# Altium integrated library Analog Devices Data Converters Digital-to-Analog Converters.IntLib: 2231 symbols (part 69 of 181)
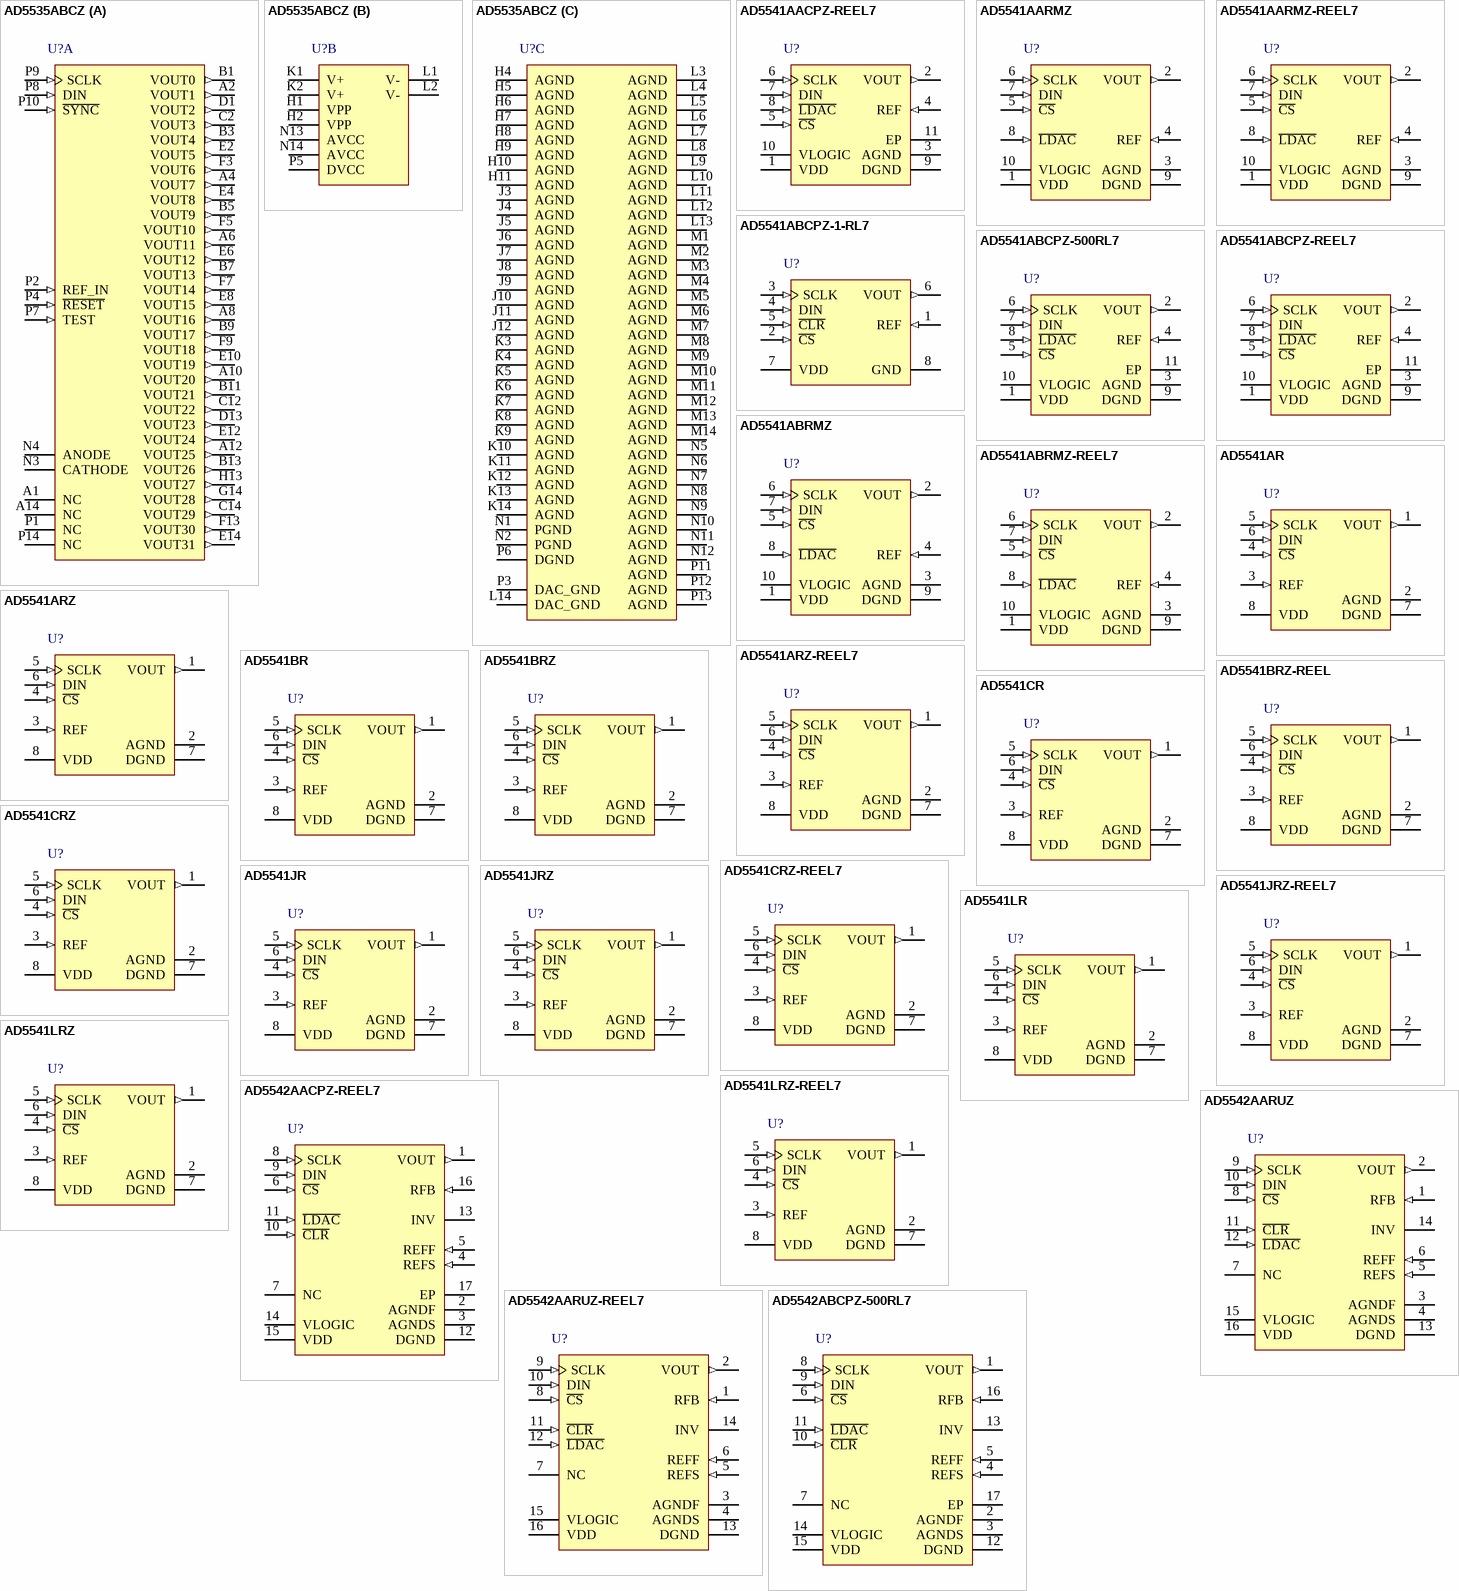
[diagram p182: symbols AD5535ABCZ to AD5542ABCPZ-500RL7]

## AD5541ARZ-REEL7
designator U?
Single 16-Bit Digital-to-Analog Converter with Serial Interface, 2.7 to 5.5 V, -40 to +85 degC, R-8, Pb-Free, Reel; Generic Part Number: AD5541; Manufacturer: Analog Devices; PartNumber: AD5541ARZ-REEL7; # DAC Outputs: 1; Max V+: 5.5V; Op Pwr Diss: 6.05mW; Resolution (Bits): 16; Settling Time: 1µs; Single Supply: Yes; DatasheetVersion: Rev.F; PackageVersion: 060506-A; PackageReference: R-8; PackageDescription: 8-Lead Standard Small Outline Package [SOIC_N] Narrow Body; Supplier 1: Digi-Key; Supplier Part Number 1: AD5541ARZ-REEL7-ND; Supplier 2: Newark; Supplier Part Number 2: 59K4206; Supplier 3: Mouser; Supplier Part Number 3: 584-AD5541ARZ-R7; Packing: Reel; RoHS: Y; Mounting Technology: Surface Mount; Code_JEDEC: MS-012-AA; Code_IPC: SOIC127P600-8; ComponentLink1Description: Manufacturer URL; ComponentLink1URL: http://www.analog.com/en/index.html; ComponentLink2Description: Datasheet; ComponentLink2URL: http://www.analog.com/static/imported-files/data_sheets/AD5541_5542.pdf; ComponentLink3Description: Package Specification; ComponentLink3URL: http://www.analog.com/static/imported-files/packages/PKG_PDF/SOIC_Narrow%20(R)/R_8.pdf; ComponentLink4Description: Product URL; ComponentLink4URL: http://www.analog.com/en/digital-to-analog-converters/da-converters/ad5541/products/product.html; ComponentLink5Description: Reference Design URL; ComponentLink5URL: http://www.analog.com/en/digital-to-analog-converters/da-converters/ad5541/products/product.html#prod_cross_sell
footprint R-8_N (SOIC, 8-Leads, Body 4.9x3.9mm, Pitch 1.27mm, IPC Medium Density)
footprint R-8_L (SOIC, 8-Leads, Body 4.9x3.9mm, Pitch 1.27mm, IPC High Density)
footprint R-8_M (SOIC, 8-Leads, Body 4.9x3.9mm, Pitch 1.27mm, IPC Low Density)
pins: 1 VOUT (out) "Analog Output Voltage from the DAC.", 2 AGND (power) "Ground Reference Point for Analog Circuitry.", 3 REF (in) "Voltage Reference Input for the DAC. Connect to an external 2.5 V reference. Reference can range from 2 V to VDD.", 4 ~{CS} (in) "Logic Input Signal. The chip select signal is used to frame the serial data input.", 5 SCLK (in) "Clock Input. Data is clocked into the input register on the rising edge of SCLK. Duty cycle must be between 40% and 60%.", 6 DIN (in) "Serial Data Input. This device accepts 16-bit words. Data is clocked into the input register on the rising edge of SCLK.", 7 DGND (power) "Digital Ground. Ground reference for digital circuitry.", 8 VDD (power) "Analog Supply Voltage, 5 V +/- 10%."

## AD5541BR
designator U?
Single 16-Bit Digital-to-Analog Converter with Serial Interface, 2.7 to 5.5 V, -40 to +85 degC, R-8, Tube; Generic Part Number: AD5541; Manufacturer: Analog Devices; PartNumber: AD5541BR; # DAC Outputs: 1; Max V+: 5.5V; Op Pwr Diss: 6.05mW; Resolution (Bits): 16; Settling Time: 1µs; Single Supply: Yes; DatasheetVersion: Rev.F; PackageVersion: 060506-A; PackageReference: R-8; PackageDescription: 8-Lead Standard Small Outline Package [SOIC_N] Narrow Body; Supplier 1: Digi-Key; Supplier Part Number 1: AD5541BR-ND; Supplier 2: Mouser; Supplier Part Number 2: 584-AD5541BR; Packing: Tube; RoHS: N; Mounting Technology: Surface Mount; Code_JEDEC: MS-012-AA; Code_IPC: SOIC127P600-8; ComponentLink1Description: Manufacturer URL; ComponentLink1URL: http://www.analog.com/en/index.html; ComponentLink2Description: Datasheet; ComponentLink2URL: http://www.analog.com/static/imported-files/data_sheets/AD5541_5542.pdf; ComponentLink3Description: Package Specification; ComponentLink3URL: http://www.analog.com/static/imported-files/packages/PKG_PDF/SOIC_Narrow%20(R)/R_8.pdf; ComponentLink4Description: Product URL; ComponentLink4URL: http://www.analog.com/en/digital-to-analog-converters/da-converters/ad5541/products/product.html; ComponentLink5Description: Reference Design URL; ComponentLink5URL: http://www.analog.com/en/digital-to-analog-converters/da-converters/ad5541/products/product.html#prod_cross_sell
footprint R-8_N (SOIC, 8-Leads, Body 4.9x3.9mm, Pitch 1.27mm, IPC Medium Density)
footprint R-8_L (SOIC, 8-Leads, Body 4.9x3.9mm, Pitch 1.27mm, IPC High Density)
footprint R-8_M (SOIC, 8-Leads, Body 4.9x3.9mm, Pitch 1.27mm, IPC Low Density)
pins: 1 VOUT (out) "Analog Output Voltage from the DAC.", 2 AGND (power) "Ground Reference Point for Analog Circuitry.", 3 REF (in) "Voltage Reference Input for the DAC. Connect to an external 2.5 V reference. Reference can range from 2 V to VDD.", 4 ~{CS} (in) "Logic Input Signal. The chip select signal is used to frame the serial data input.", 5 SCLK (in) "Clock Input. Data is clocked into the input register on the rising edge of SCLK. Duty cycle must be between 40% and 60%.", 6 DIN (in) "Serial Data Input. This device accepts 16-bit words. Data is clocked into the input register on the rising edge of SCLK.", 7 DGND (power) "Digital Ground. Ground reference for digital circuitry.", 8 VDD (power) "Analog Supply Voltage, 5 V +/- 10%."

## AD5541BRZ
designator U?
Single 16-Bit Digital-to-Analog Converter with Serial Interface, 2.7 to 5.5 V, -40 to +85 degC, R-8, Pb-Free, Tube; Generic Part Number: AD5541; Manufacturer: Analog Devices; PartNumber: AD5541BRZ; # DAC Outputs: 1; Max V+: 5.5V; Op Pwr Diss: 6.05mW; Resolution (Bits): 16; Settling Time: 1µs; Single Supply: Yes; DatasheetVersion: Rev.F; PackageVersion: 060506-A; PackageReference: R-8; PackageDescription: 8-Lead Standard Small Outline Package [SOIC_N] Narrow Body; Supplier 1: Digi-Key; Supplier Part Number 1: AD5541BRZ-ND; Supplier 2: Farnell; Supplier Part Number 2: 2305672; Supplier 3: Newark; Supplier Part Number 3: 59K4207; Supplier 4: Mouser; Supplier Part Number 4: 584-AD5541BRZ; Packing: Tube; RoHS: Y; Mounting Technology: Surface Mount; Code_JEDEC: MS-012-AA; Code_IPC: SOIC127P600-8; ComponentLink1Description: Manufacturer URL; ComponentLink1URL: http://www.analog.com/en/index.html; ComponentLink2Description: Datasheet; ComponentLink2URL: http://www.analog.com/static/imported-files/data_sheets/AD5541_5542.pdf; ComponentLink3Description: Package Specification; ComponentLink3URL: http://www.analog.com/static/imported-files/packages/PKG_PDF/SOIC_Narrow%20(R)/R_8.pdf; ComponentLink4Description: Product URL; ComponentLink4URL: http://www.analog.com/en/digital-to-analog-converters/da-converters/ad5541/products/product.html; ComponentLink5Description: Reference Design URL; ComponentLink5URL: http://www.analog.com/en/digital-to-analog-converters/da-converters/ad5541/products/product.html#prod_cross_sell
footprint R-8_N (SOIC, 8-Leads, Body 4.9x3.9mm, Pitch 1.27mm, IPC Medium Density)
footprint R-8_L (SOIC, 8-Leads, Body 4.9x3.9mm, Pitch 1.27mm, IPC High Density)
footprint R-8_M (SOIC, 8-Leads, Body 4.9x3.9mm, Pitch 1.27mm, IPC Low Density)
pins: 1 VOUT (out) "Analog Output Voltage from the DAC.", 2 AGND (power) "Ground Reference Point for Analog Circuitry.", 3 REF (in) "Voltage Reference Input for the DAC. Connect to an external 2.5 V reference. Reference can range from 2 V to VDD.", 4 ~{CS} (in) "Logic Input Signal. The chip select signal is used to frame the serial data input.", 5 SCLK (in) "Clock Input. Data is clocked into the input register on the rising edge of SCLK. Duty cycle must be between 40% and 60%.", 6 DIN (in) "Serial Data Input. This device accepts 16-bit words. Data is clocked into the input register on the rising edge of SCLK.", 7 DGND (power) "Digital Ground. Ground reference for digital circuitry.", 8 VDD (power) "Analog Supply Voltage, 5 V +/- 10%."

## AD5541BRZ-REEL
designator U?
Single 16-Bit Digital-to-Analog Converter with Serial Interface, 2.7 to 5.5 V, -40 to +85 degC, R-8, Pb-Free, Reel; Generic Part Number: AD5541; Manufacturer: Analog Devices; PartNumber: AD5541BRZ-REEL; # DAC Outputs: 1; Max V+: 5.5V; Op Pwr Diss: 6.05mW; Resolution (Bits): 16; Settling Time: 1µs; Single Supply: Yes; DatasheetVersion: Rev.F; PackageVersion: 060506-A; PackageReference: R-8; PackageDescription: 8-Lead Standard Small Outline Package [SOIC_N] Narrow Body; Supplier 1: Digi-Key; Supplier Part Number 1: AD5541BRZ-REEL-ND; Supplier 2: Newark; Supplier Part Number 2: 91R2577; Supplier 3: Mouser; Supplier Part Number 3: 584-AD5541BRZ-R; Packing: Reel; RoHS: Y; Mounting Technology: Surface Mount; Code_JEDEC: MS-012-AA; Code_IPC: SOIC127P600-8; ComponentLink1Description: Manufacturer URL; ComponentLink1URL: http://www.analog.com/en/index.html; ComponentLink2Description: Datasheet; ComponentLink2URL: http://www.analog.com/static/imported-files/data_sheets/AD5541_5542.pdf; ComponentLink3Description: Package Specification; ComponentLink3URL: http://www.analog.com/static/imported-files/packages/PKG_PDF/SOIC_Narrow%20(R)/R_8.pdf; ComponentLink4Description: Product URL; ComponentLink4URL: http://www.analog.com/en/digital-to-analog-converters/da-converters/ad5541/products/product.html; ComponentLink5Description: Reference Design URL; ComponentLink5URL: http://www.analog.com/en/digital-to-analog-converters/da-converters/ad5541/products/product.html#prod_cross_sell
footprint R-8_N (SOIC, 8-Leads, Body 4.9x3.9mm, Pitch 1.27mm, IPC Medium Density)
footprint R-8_L (SOIC, 8-Leads, Body 4.9x3.9mm, Pitch 1.27mm, IPC High Density)
footprint R-8_M (SOIC, 8-Leads, Body 4.9x3.9mm, Pitch 1.27mm, IPC Low Density)
pins: 1 VOUT (out) "Analog Output Voltage from the DAC.", 2 AGND (power) "Ground Reference Point for Analog Circuitry.", 3 REF (in) "Voltage Reference Input for the DAC. Connect to an external 2.5 V reference. Reference can range from 2 V to VDD.", 4 ~{CS} (in) "Logic Input Signal. The chip select signal is used to frame the serial data input.", 5 SCLK (in) "Clock Input. Data is clocked into the input register on the rising edge of SCLK. Duty cycle must be between 40% and 60%.", 6 DIN (in) "Serial Data Input. This device accepts 16-bit words. Data is clocked into the input register on the rising edge of SCLK.", 7 DGND (power) "Digital Ground. Ground reference for digital circuitry.", 8 VDD (power) "Analog Supply Voltage, 5 V +/- 10%."

## AD5541CR
designator U?
Single 16-Bit Digital-to-Analog Converter with Serial Interface, 2.7 to 5.5 V, -40 to +85 degC, R-8, Tube; Generic Part Number: AD5541; Manufacturer: Analog Devices; PartNumber: AD5541CR; # DAC Outputs: 1; Max V+: 5.5V; Op Pwr Diss: 6.05mW; Resolution (Bits): 16; Settling Time: 1µs; Single Supply: Yes; DatasheetVersion: Rev.F; PackageVersion: 060506-A; PackageReference: R-8; PackageDescription: 8-Lead Standard Small Outline Package [SOIC_N] Narrow Body; Supplier 1: Digi-Key; Supplier Part Number 1: AD5541CR-ND; Supplier 2: Mouser; Supplier Part Number 2: 584-AD5541CR; Packing: Tube; RoHS: N; Mounting Technology: Surface Mount; Code_JEDEC: MS-012-AA; Code_IPC: SOIC127P600-8; ComponentLink1Description: Manufacturer URL; ComponentLink1URL: http://www.analog.com/en/index.html; ComponentLink2Description: Datasheet; ComponentLink2URL: http://www.analog.com/static/imported-files/data_sheets/AD5541_5542.pdf; ComponentLink3Description: Package Specification; ComponentLink3URL: http://www.analog.com/static/imported-files/packages/PKG_PDF/SOIC_Narrow%20(R)/R_8.pdf; ComponentLink4Description: Product URL; ComponentLink4URL: http://www.analog.com/en/digital-to-analog-converters/da-converters/ad5541/products/product.html; ComponentLink5Description: Reference Design URL; ComponentLink5URL: http://www.analog.com/en/digital-to-analog-converters/da-converters/ad5541/products/product.html#prod_cross_sell
footprint R-8_N (SOIC, 8-Leads, Body 4.9x3.9mm, Pitch 1.27mm, IPC Medium Density)
footprint R-8_L (SOIC, 8-Leads, Body 4.9x3.9mm, Pitch 1.27mm, IPC High Density)
footprint R-8_M (SOIC, 8-Leads, Body 4.9x3.9mm, Pitch 1.27mm, IPC Low Density)
pins: 1 VOUT (out) "Analog Output Voltage from the DAC.", 2 AGND (power) "Ground Reference Point for Analog Circuitry.", 3 REF (in) "Voltage Reference Input for the DAC. Connect to an external 2.5 V reference. Reference can range from 2 V to VDD.", 4 ~{CS} (in) "Logic Input Signal. The chip select signal is used to frame the serial data input.", 5 SCLK (in) "Clock Input. Data is clocked into the input register on the rising edge of SCLK. Duty cycle must be between 40% and 60%.", 6 DIN (in) "Serial Data Input. This device accepts 16-bit words. Data is clocked into the input register on the rising edge of SCLK.", 7 DGND (power) "Digital Ground. Ground reference for digital circuitry.", 8 VDD (power) "Analog Supply Voltage, 5 V +/- 10%."

## AD5541CRZ
designator U?
Single 16-Bit Digital-to-Analog Converter with Serial Interface, 2.7 to 5.5 V, -40 to +85 degC, R-8, Pb-Free, Tube; Generic Part Number: AD5541; Manufacturer: Analog Devices; PartNumber: AD5541CRZ; # DAC Outputs: 1; Max V+: 5.5V; Op Pwr Diss: 6.05mW; Resolution (Bits): 16; Settling Time: 1µs; Single Supply: Yes; DatasheetVersion: Rev.F; PackageVersion: 060506-A; PackageReference: R-8; PackageDescription: 8-Lead Standard Small Outline Package [SOIC_N] Narrow Body; Supplier 1: Digi-Key; Supplier Part Number 1: AD5541CRZ-ND; Supplier 2: Newark; Supplier Part Number 2: 59K4208; Supplier 3: Mouser; Supplier Part Number 3: 584-AD5541CRZ; Packing: Tube; RoHS: Y; Mounting Technology: Surface Mount; Code_JEDEC: MS-012-AA; Code_IPC: SOIC127P600-8; ComponentLink1Description: Manufacturer URL; ComponentLink1URL: http://www.analog.com/en/index.html; ComponentLink2Description: Datasheet; ComponentLink2URL: http://www.analog.com/static/imported-files/data_sheets/AD5541_5542.pdf; ComponentLink3Description: Package Specification; ComponentLink3URL: http://www.analog.com/static/imported-files/packages/PKG_PDF/SOIC_Narrow%20(R)/R_8.pdf; ComponentLink4Description: Product URL; ComponentLink4URL: http://www.analog.com/en/digital-to-analog-converters/da-converters/ad5541/products/product.html; ComponentLink5Description: Reference Design URL; ComponentLink5URL: http://www.analog.com/en/digital-to-analog-converters/da-converters/ad5541/products/product.html#prod_cross_sell
footprint R-8_N (SOIC, 8-Leads, Body 4.9x3.9mm, Pitch 1.27mm, IPC Medium Density)
footprint R-8_L (SOIC, 8-Leads, Body 4.9x3.9mm, Pitch 1.27mm, IPC High Density)
footprint R-8_M (SOIC, 8-Leads, Body 4.9x3.9mm, Pitch 1.27mm, IPC Low Density)
pins: 1 VOUT (out) "Analog Output Voltage from the DAC.", 2 AGND (power) "Ground Reference Point for Analog Circuitry.", 3 REF (in) "Voltage Reference Input for the DAC. Connect to an external 2.5 V reference. Reference can range from 2 V to VDD.", 4 ~{CS} (in) "Logic Input Signal. The chip select signal is used to frame the serial data input.", 5 SCLK (in) "Clock Input. Data is clocked into the input register on the rising edge of SCLK. Duty cycle must be between 40% and 60%.", 6 DIN (in) "Serial Data Input. This device accepts 16-bit words. Data is clocked into the input register on the rising edge of SCLK.", 7 DGND (power) "Digital Ground. Ground reference for digital circuitry.", 8 VDD (power) "Analog Supply Voltage, 5 V +/- 10%."

## AD5541CRZ-REEL7
designator U?
Single 16-Bit Digital-to-Analog Converter with Serial Interface, 2.7 to 5.5 V, -40 to +85 degC, R-8, Pb-Free, Reel; Generic Part Number: AD5541; Manufacturer: Analog Devices; PartNumber: AD5541CRZ-REEL7; # DAC Outputs: 1; Max V+: 5.5V; Op Pwr Diss: 6.05mW; Resolution (Bits): 16; Settling Time: 1µs; Single Supply: Yes; DatasheetVersion: Rev.F; PackageVersion: 060506-A; PackageReference: R-8; PackageDescription: 8-Lead Standard Small Outline Package [SOIC_N] Narrow Body; Supplier 1: Digi-Key; Supplier Part Number 1: AD5541CRZ-REEL7-ND; Supplier 2: Mouser; Supplier Part Number 2: 584-AD5541CRZ-R7; Packing: Reel; RoHS: Y; Mounting Technology: Surface Mount; Code_JEDEC: MS-012-AA; Code_IPC: SOIC127P600-8; ComponentLink1Description: Manufacturer URL; ComponentLink1URL: http://www.analog.com/en/index.html; ComponentLink2Description: Datasheet; ComponentLink2URL: http://www.analog.com/static/imported-files/data_sheets/AD5541_5542.pdf; ComponentLink3Description: Package Specification; ComponentLink3URL: http://www.analog.com/static/imported-files/packages/PKG_PDF/SOIC_Narrow%20(R)/R_8.pdf; ComponentLink4Description: Product URL; ComponentLink4URL: http://www.analog.com/en/digital-to-analog-converters/da-converters/ad5541/products/product.html; ComponentLink5Description: Reference Design URL; ComponentLink5URL: http://www.analog.com/en/digital-to-analog-converters/da-converters/ad5541/products/product.html#prod_cross_sell
footprint R-8_N (SOIC, 8-Leads, Body 4.9x3.9mm, Pitch 1.27mm, IPC Medium Density)
footprint R-8_L (SOIC, 8-Leads, Body 4.9x3.9mm, Pitch 1.27mm, IPC High Density)
footprint R-8_M (SOIC, 8-Leads, Body 4.9x3.9mm, Pitch 1.27mm, IPC Low Density)
pins: 1 VOUT (out) "Analog Output Voltage from the DAC.", 2 AGND (power) "Ground Reference Point for Analog Circuitry.", 3 REF (in) "Voltage Reference Input for the DAC. Connect to an external 2.5 V reference. Reference can range from 2 V to VDD.", 4 ~{CS} (in) "Logic Input Signal. The chip select signal is used to frame the serial data input.", 5 SCLK (in) "Clock Input. Data is clocked into the input register on the rising edge of SCLK. Duty cycle must be between 40% and 60%.", 6 DIN (in) "Serial Data Input. This device accepts 16-bit words. Data is clocked into the input register on the rising edge of SCLK.", 7 DGND (power) "Digital Ground. Ground reference for digital circuitry.", 8 VDD (power) "Analog Supply Voltage, 5 V +/- 10%."

## AD5541JR
designator U?
Single 16-Bit Digital-to-Analog Converter with Serial Interface, 2.7 to 5.5 V, 0 to +70 degC, R-8, Tube; Generic Part Number: AD5541; Manufacturer: Analog Devices; PartNumber: AD5541JR; # DAC Outputs: 1; Max V+: 5.5V; Op Pwr Diss: 6.05mW; Resolution (Bits): 16; Settling Time: 1µs; Single Supply: Yes; DatasheetVersion: Rev.F; PackageVersion: 060506-A; PackageReference: R-8; PackageDescription: 8-Lead Standard Small Outline Package [SOIC_N] Narrow Body; Supplier 1: Digi-Key; Supplier Part Number 1: AD5541JR-ND; Supplier 2: Mouser; Supplier Part Number 2: 584-AD5541JR; Packing: Tube; RoHS: N; Mounting Technology: Surface Mount; Code_JEDEC: MS-012-AA; Code_IPC: SOIC127P600-8; ComponentLink1Description: Manufacturer URL; ComponentLink1URL: http://www.analog.com/en/index.html; ComponentLink2Description: Datasheet; ComponentLink2URL: http://www.analog.com/static/imported-files/data_sheets/AD5541_5542.pdf; ComponentLink3Description: Package Specification; ComponentLink3URL: http://www.analog.com/static/imported-files/packages/PKG_PDF/SOIC_Narrow%20(R)/R_8.pdf; ComponentLink4Description: Product URL; ComponentLink4URL: http://www.analog.com/en/digital-to-analog-converters/da-converters/ad5541/products/product.html; ComponentLink5Description: Reference Design URL; ComponentLink5URL: http://www.analog.com/en/digital-to-analog-converters/da-converters/ad5541/products/product.html#prod_cross_sell
footprint R-8_N (SOIC, 8-Leads, Body 4.9x3.9mm, Pitch 1.27mm, IPC Medium Density)
footprint R-8_L (SOIC, 8-Leads, Body 4.9x3.9mm, Pitch 1.27mm, IPC High Density)
footprint R-8_M (SOIC, 8-Leads, Body 4.9x3.9mm, Pitch 1.27mm, IPC Low Density)
pins: 1 VOUT (out) "Analog Output Voltage from the DAC.", 2 AGND (power) "Ground Reference Point for Analog Circuitry.", 3 REF (in) "Voltage Reference Input for the DAC. Connect to an external 2.5 V reference. Reference can range from 2 V to VDD.", 4 ~{CS} (in) "Logic Input Signal. The chip select signal is used to frame the serial data input.", 5 SCLK (in) "Clock Input. Data is clocked into the input register on the rising edge of SCLK. Duty cycle must be between 40% and 60%.", 6 DIN (in) "Serial Data Input. This device accepts 16-bit words. Data is clocked into the input register on the rising edge of SCLK.", 7 DGND (power) "Digital Ground. Ground reference for digital circuitry.", 8 VDD (power) "Analog Supply Voltage, 5 V +/- 10%."

## AD5541JRZ
designator U?
Single 16-Bit Digital-to-Analog Converter with Serial Interface, 2.7 to 5.5 V, 0 to +70 degC, R-8, Pb-Free, Tube; Generic Part Number: AD5541; Manufacturer: Analog Devices; PartNumber: AD5541JRZ; # DAC Outputs: 1; Max V+: 5.5V; Op Pwr Diss: 6.05mW; Resolution (Bits): 16; Settling Time: 1µs; Single Supply: Yes; DatasheetVersion: Rev.F; PackageVersion: 060506-A; PackageReference: R-8; PackageDescription: 8-Lead Standard Small Outline Package [SOIC_N] Narrow Body; Supplier 1: Digi-Key; Supplier Part Number 1: AD5541JRZ-ND; Supplier 2: Newark; Supplier Part Number 2: 59K4209; Supplier 3: Mouser; Supplier Part Number 3: 584-AD5541JRZ; Packing: Tube; RoHS: Y; Mounting Technology: Surface Mount; Code_JEDEC: MS-012-AA; Code_IPC: SOIC127P600-8; ComponentLink1Description: Manufacturer URL; ComponentLink1URL: http://www.analog.com/en/index.html; ComponentLink2Description: Datasheet; ComponentLink2URL: http://www.analog.com/static/imported-files/data_sheets/AD5541_5542.pdf; ComponentLink3Description: Package Specification; ComponentLink3URL: http://www.analog.com/static/imported-files/packages/PKG_PDF/SOIC_Narrow%20(R)/R_8.pdf; ComponentLink4Description: Product URL; ComponentLink4URL: http://www.analog.com/en/digital-to-analog-converters/da-converters/ad5541/products/product.html; ComponentLink5Description: Reference Design URL; ComponentLink5URL: http://www.analog.com/en/digital-to-analog-converters/da-converters/ad5541/products/product.html#prod_cross_sell
footprint R-8_N (SOIC, 8-Leads, Body 4.9x3.9mm, Pitch 1.27mm, IPC Medium Density)
footprint R-8_L (SOIC, 8-Leads, Body 4.9x3.9mm, Pitch 1.27mm, IPC High Density)
footprint R-8_M (SOIC, 8-Leads, Body 4.9x3.9mm, Pitch 1.27mm, IPC Low Density)
pins: 1 VOUT (out) "Analog Output Voltage from the DAC.", 2 AGND (power) "Ground Reference Point for Analog Circuitry.", 3 REF (in) "Voltage Reference Input for the DAC. Connect to an external 2.5 V reference. Reference can range from 2 V to VDD.", 4 ~{CS} (in) "Logic Input Signal. The chip select signal is used to frame the serial data input.", 5 SCLK (in) "Clock Input. Data is clocked into the input register on the rising edge of SCLK. Duty cycle must be between 40% and 60%.", 6 DIN (in) "Serial Data Input. This device accepts 16-bit words. Data is clocked into the input register on the rising edge of SCLK.", 7 DGND (power) "Digital Ground. Ground reference for digital circuitry.", 8 VDD (power) "Analog Supply Voltage, 5 V +/- 10%."

## AD5541JRZ-REEL7
designator U?
Single 16-Bit Digital-to-Analog Converter with Serial Interface, 2.7 to 5.5 V, 0 to +70 degC, R-8, Pb-Free, Reel; Generic Part Number: AD5541; Manufacturer: Analog Devices; PartNumber: AD5541JRZ-REEL7; # DAC Outputs: 1; Max V+: 5.5V; Op Pwr Diss: 6.05mW; Resolution (Bits): 16; Settling Time: 1µs; Single Supply: Yes; DatasheetVersion: Rev.F; PackageVersion: 060506-A; PackageReference: R-8; PackageDescription: 8-Lead Standard Small Outline Package [SOIC_N] Narrow Body; Supplier 1: Digi-Key; Supplier Part Number 1: AD5541JRZ-REEL7-ND; Supplier 2: Mouser; Supplier Part Number 2: 584-AD5541JRZ-R7; Packing: Reel; RoHS: Y; Mounting Technology: Surface Mount; Code_JEDEC: MS-012-AA; Code_IPC: SOIC127P600-8; ComponentLink1Description: Manufacturer URL; ComponentLink1URL: http://www.analog.com/en/index.html; ComponentLink2Description: Datasheet; ComponentLink2URL: http://www.analog.com/static/imported-files/data_sheets/AD5541_5542.pdf; ComponentLink3Description: Package Specification; ComponentLink3URL: http://www.analog.com/static/imported-files/packages/PKG_PDF/SOIC_Narrow%20(R)/R_8.pdf; ComponentLink4Description: Product URL; ComponentLink4URL: http://www.analog.com/en/digital-to-analog-converters/da-converters/ad5541/products/product.html; ComponentLink5Description: Reference Design URL; ComponentLink5URL: http://www.analog.com/en/digital-to-analog-converters/da-converters/ad5541/products/product.html#prod_cross_sell
footprint R-8_N (SOIC, 8-Leads, Body 4.9x3.9mm, Pitch 1.27mm, IPC Medium Density)
footprint R-8_L (SOIC, 8-Leads, Body 4.9x3.9mm, Pitch 1.27mm, IPC High Density)
footprint R-8_M (SOIC, 8-Leads, Body 4.9x3.9mm, Pitch 1.27mm, IPC Low Density)
pins: 1 VOUT (out) "Analog Output Voltage from the DAC.", 2 AGND (power) "Ground Reference Point for Analog Circuitry.", 3 REF (in) "Voltage Reference Input for the DAC. Connect to an external 2.5 V reference. Reference can range from 2 V to VDD.", 4 ~{CS} (in) "Logic Input Signal. The chip select signal is used to frame the serial data input.", 5 SCLK (in) "Clock Input. Data is clocked into the input register on the rising edge of SCLK. Duty cycle must be between 40% and 60%.", 6 DIN (in) "Serial Data Input. This device accepts 16-bit words. Data is clocked into the input register on the rising edge of SCLK.", 7 DGND (power) "Digital Ground. Ground reference for digital circuitry.", 8 VDD (power) "Analog Supply Voltage, 5 V +/- 10%."

## AD5541LR
designator U?
Single 16-Bit Digital-to-Analog Converter with Serial Interface, 2.7 to 5.5 V, 0 to +70 degC, R-8, Tube; Generic Part Number: AD5541; Manufacturer: Analog Devices; PartNumber: AD5541LR; # DAC Outputs: 1; Max V+: 5.5V; Op Pwr Diss: 6.05mW; Resolution (Bits): 16; Settling Time: 1µs; Single Supply: Yes; DatasheetVersion: Rev.F; PackageVersion: 060506-A; PackageReference: R-8; PackageDescription: 8-Lead Standard Small Outline Package [SOIC_N] Narrow Body; Supplier 1: Digi-Key; Supplier Part Number 1: AD5541LR-ND; Supplier 2: Mouser; Supplier Part Number 2: 584-AD5541LR; Packing: Tube; RoHS: N; Mounting Technology: Surface Mount; Code_JEDEC: MS-012-AA; Code_IPC: SOIC127P600-8; ComponentLink1Description: Manufacturer URL; ComponentLink1URL: http://www.analog.com/en/index.html; ComponentLink2Description: Datasheet; ComponentLink2URL: http://www.analog.com/static/imported-files/data_sheets/AD5541_5542.pdf; ComponentLink3Description: Package Specification; ComponentLink3URL: http://www.analog.com/static/imported-files/packages/PKG_PDF/SOIC_Narrow%20(R)/R_8.pdf; ComponentLink4Description: Product URL; ComponentLink4URL: http://www.analog.com/en/digital-to-analog-converters/da-converters/ad5541/products/product.html; ComponentLink5Description: Reference Design URL; ComponentLink5URL: http://www.analog.com/en/digital-to-analog-converters/da-converters/ad5541/products/product.html#prod_cross_sell
footprint R-8_N (SOIC, 8-Leads, Body 4.9x3.9mm, Pitch 1.27mm, IPC Medium Density)
footprint R-8_L (SOIC, 8-Leads, Body 4.9x3.9mm, Pitch 1.27mm, IPC High Density)
footprint R-8_M (SOIC, 8-Leads, Body 4.9x3.9mm, Pitch 1.27mm, IPC Low Density)
pins: 1 VOUT (out) "Analog Output Voltage from the DAC.", 2 AGND (power) "Ground Reference Point for Analog Circuitry.", 3 REF (in) "Voltage Reference Input for the DAC. Connect to an external 2.5 V reference. Reference can range from 2 V to VDD.", 4 ~{CS} (in) "Logic Input Signal. The chip select signal is used to frame the serial data input.", 5 SCLK (in) "Clock Input. Data is clocked into the input register on the rising edge of SCLK. Duty cycle must be between 40% and 60%.", 6 DIN (in) "Serial Data Input. This device accepts 16-bit words. Data is clocked into the input register on the rising edge of SCLK.", 7 DGND (power) "Digital Ground. Ground reference for digital circuitry.", 8 VDD (power) "Analog Supply Voltage, 5 V +/- 10%."

## AD5541LRZ
designator U?
Single 16-Bit Digital-to-Analog Converter with Serial Interface, 2.7 to 5.5 V, 0 to +70 degC, R-8, Pb-Free, Tube; Generic Part Number: AD5541; Manufacturer: Analog Devices; PartNumber: AD5541LRZ; # DAC Outputs: 1; Max V+: 5.5V; Op Pwr Diss: 6.05mW; Resolution (Bits): 16; Settling Time: 1µs; Single Supply: Yes; DatasheetVersion: Rev.F; PackageVersion: 060506-A; PackageReference: R-8; PackageDescription: 8-Lead Standard Small Outline Package [SOIC_N] Narrow Body; Supplier 1: Digi-Key; Supplier Part Number 1: AD5541LRZ-ND; Supplier 2: Newark; Supplier Part Number 2: 59K4211; Supplier 3: Mouser; Supplier Part Number 3: 584-AD5541LRZ; Packing: Tube; RoHS: Y; Mounting Technology: Surface Mount; Code_JEDEC: MS-012-AA; Code_IPC: SOIC127P600-8; ComponentLink1Description: Manufacturer URL; ComponentLink1URL: http://www.analog.com/en/index.html; ComponentLink2Description: Datasheet; ComponentLink2URL: http://www.analog.com/static/imported-files/data_sheets/AD5541_5542.pdf; ComponentLink3Description: Package Specification; ComponentLink3URL: http://www.analog.com/static/imported-files/packages/PKG_PDF/SOIC_Narrow%20(R)/R_8.pdf; ComponentLink4Description: Product URL; ComponentLink4URL: http://www.analog.com/en/digital-to-analog-converters/da-converters/ad5541/products/product.html; ComponentLink5Description: Reference Design URL; ComponentLink5URL: http://www.analog.com/en/digital-to-analog-converters/da-converters/ad5541/products/product.html#prod_cross_sell
footprint R-8_N (SOIC, 8-Leads, Body 4.9x3.9mm, Pitch 1.27mm, IPC Medium Density)
footprint R-8_L (SOIC, 8-Leads, Body 4.9x3.9mm, Pitch 1.27mm, IPC High Density)
footprint R-8_M (SOIC, 8-Leads, Body 4.9x3.9mm, Pitch 1.27mm, IPC Low Density)
pins: 1 VOUT (out) "Analog Output Voltage from the DAC.", 2 AGND (power) "Ground Reference Point for Analog Circuitry.", 3 REF (in) "Voltage Reference Input for the DAC. Connect to an external 2.5 V reference. Reference can range from 2 V to VDD.", 4 ~{CS} (in) "Logic Input Signal. The chip select signal is used to frame the serial data input.", 5 SCLK (in) "Clock Input. Data is clocked into the input register on the rising edge of SCLK. Duty cycle must be between 40% and 60%.", 6 DIN (in) "Serial Data Input. This device accepts 16-bit words. Data is clocked into the input register on the rising edge of SCLK.", 7 DGND (power) "Digital Ground. Ground reference for digital circuitry.", 8 VDD (power) "Analog Supply Voltage, 5 V +/- 10%."

## AD5541LRZ-REEL7
designator U?
Single 16-Bit Digital-to-Analog Converter with Serial Interface, 2.7 to 5.5 V, 0 to +70 degC, R-8, Pb-Free, Reel; Generic Part Number: AD5541; Manufacturer: Analog Devices; PartNumber: AD5541LRZ-REEL7; # DAC Outputs: 1; Max V+: 5.5V; Op Pwr Diss: 6.05mW; Resolution (Bits): 16; Settling Time: 1µs; Single Supply: Yes; DatasheetVersion: Rev.F; PackageVersion: 060506-A; PackageReference: R-8; PackageDescription: 8-Lead Standard Small Outline Package [SOIC_N] Narrow Body; Supplier 1: Digi-Key; Supplier Part Number 1: AD5541LRZ-REEL7-ND; Supplier 2: Mouser; Supplier Part Number 2: 584-AD5541LRZ-R7; Packing: Reel; RoHS: Y; Mounting Technology: Surface Mount; Code_JEDEC: MS-012-AA; Code_IPC: SOIC127P600-8; ComponentLink1Description: Manufacturer URL; ComponentLink1URL: http://www.analog.com/en/index.html; ComponentLink2Description: Datasheet; ComponentLink2URL: http://www.analog.com/static/imported-files/data_sheets/AD5541_5542.pdf; ComponentLink3Description: Package Specification; ComponentLink3URL: http://www.analog.com/static/imported-files/packages/PKG_PDF/SOIC_Narrow%20(R)/R_8.pdf; ComponentLink4Description: Product URL; ComponentLink4URL: http://www.analog.com/en/digital-to-analog-converters/da-converters/ad5541/products/product.html; ComponentLink5Description: Reference Design URL; ComponentLink5URL: http://www.analog.com/en/digital-to-analog-converters/da-converters/ad5541/products/product.html#prod_cross_sell
footprint R-8_N (SOIC, 8-Leads, Body 4.9x3.9mm, Pitch 1.27mm, IPC Medium Density)
footprint R-8_L (SOIC, 8-Leads, Body 4.9x3.9mm, Pitch 1.27mm, IPC High Density)
footprint R-8_M (SOIC, 8-Leads, Body 4.9x3.9mm, Pitch 1.27mm, IPC Low Density)
pins: 1 VOUT (out) "Analog Output Voltage from the DAC.", 2 AGND (power) "Ground Reference Point for Analog Circuitry.", 3 REF (in) "Voltage Reference Input for the DAC. Connect to an external 2.5 V reference. Reference can range from 2 V to VDD.", 4 ~{CS} (in) "Logic Input Signal. The chip select signal is used to frame the serial data input.", 5 SCLK (in) "Clock Input. Data is clocked into the input register on the rising edge of SCLK. Duty cycle must be between 40% and 60%.", 6 DIN (in) "Serial Data Input. This device accepts 16-bit words. Data is clocked into the input register on the rising edge of SCLK.", 7 DGND (power) "Digital Ground. Ground reference for digital circuitry.", 8 VDD (power) "Analog Supply Voltage, 5 V +/- 10%."

## AD5542AACPZ-REEL7
designator U?
Single 16-Bit Digital-to-Analog Converter with Serial Interface, 2.7 to 5.5 V, -40 to +85 degC, CP-16-22, Pb-Free, Reel; Generic Part Number: AD5542A; Manufacturer: Analog Devices; PartNumber: AD5542AACPZ-REEL7; # DAC Outputs: 1; Max V+: 5.5V; Op Pwr Diss: 1.5mW; Resolution (Bits): 16; Settling Time: 1µs; Single Supply: Yes; DatasheetVersion: Rev.A; PackageVersion: 111808-A; PackageReference: CP-16-22; PackageDescription: 16-Lead Lead Frame Chip Scale Package [LFCSP_WQ] 3 x 3 mm Body, Very Very Thin Quad; Supplier 1: Digi-Key; Supplier Part Number 1: AD5542AACPZ-REEL7TR-ND; Supplier 2: Digi-Key; Supplier Part Number 2: AD5542AACPZ-REEL7CT-ND; Supplier 3: Digi-Key; Supplier Part Number 3: AD5542AACPZ-REEL7DKR-ND; Supplier 4: Mouser; Supplier Part Number 4: 584-AD5542AACPZ-R7; Packing: Reel; RoHS: Y; Mounting Technology: Surface Mount; Code_JEDEC: MO-220-WEED; ComponentLink1Description: Manufacturer URL; ComponentLink1URL: http://www.analog.com/en/index.html; ComponentLink2Description: Datasheet; ComponentLink2URL: http://www.analog.com/static/imported-files/data_sheets/AD5512A_5542A.pdf; ComponentLink3Description: Package Specification; ComponentLink3URL: http://www.analog.com/static/imported-files/packages/PKG_PDF/LFCSP(CP)/CP-16/CP_16_22.pdf; ComponentLink4Description: Product URL; ComponentLink4URL: http://www.analog.com/en/digital-to-analog-converters/da-converters/ad5542a/products/product.html
footprint CP-16-22_N (QFN, 16-Leads, Body 3x3mm, Pitch 0.5mm, Thermal Pad 1.75x1.75mm, IPC Medium Density)
footprint CP-16-22_L (QFN, 16-Leads, Body 3x3mm, Pitch 0.5mm, Thermal Pad 1.75x1.75mm, IPC High Density)
footprint CP-16-22_M (QFN, 16-Leads, Body 3x3mm, Pitch 0.5mm, Thermal Pad 1.75x1.75mm, IPC Low Density)
pins: 1 VOUT (out) "Analog Output Voltage from the DAC.", 2 AGNDF (power) "Ground Reference Point for Analog Circuitry (Force).", 3 AGNDS (power) "Ground Reference Point for Analog Circuitry (Sense).", 4 REFS (in) "Voltage Reference Input (Sense) for the DAC. Connect to an external 2.5 V reference. Reference can range from 2 V to VDD.", 5 REFF (in) "Voltage Reference Input (Force) for the DAC. Connect to an external 2.5 V reference. Reference can range from 2 V to VDD.", 6 ~{CS} (in) "Logic Input Signal. The chip select signal is used to frame the serial data input.", 7 NC "No Connect.", 8 SCLK (in) "Clock Input. Data is clocked into the input register on the rising edge of SCLK. Duty cycle must be between 40% and 60%.", 9 DIN (in) "Serial Data Input. This device accepts 16-bit words. Data is clocked into the input register on the rising edge of SCLK.", 10 ~{CLR} (in) "Asynchronous Clear Input. The C\L\R\ input is falling edge sensitive. When C\L\R\ is low, all L\D\A\C\ pulses are ignored. When C\L\R\ is activated, the DAC register is cleared to the model selectable midscale.", 11 ~{LDAC} (in) "L\D\A\C\ Input. When this input is taken low, the DAC register is simultaneously updated with the contents of the input register.", 12 DGND (power) "Digital Ground. Ground reference for digital circuitry.", 13 INV "Connection to the Internal Scaling Resistors of the DAC. Connect the INV pin to the external op amps inverting input in bipolar mode.", 14 VLOGIC (power) "Logic Power Supply.", 15 VDD (power) "Analog Supply Voltage, 5 V +/- 10%.", 16 RFB (in) "Feedback Resistor Pin. In bipolar mode, connect this pin to the external op amp output.", 17 EP (power) "The exposed pad should be tied to the point of lowest potential, in this case, GND."

## AD5542AARUZ
designator U?
Single 16-Bit Digital-to-Analog Converter with Serial Interface, 2.7 to 5.5 V, -40 to +85 degC, RU-16, Pb-Free, Tube; Generic Part Number: AD5542A; Manufacturer: Analog Devices; PartNumber: AD5542AARUZ; # DAC Outputs: 1; Max V+: 5.5V; Op Pwr Diss: 1.5mW; Resolution (Bits): 16; Settling Time: 1µs; Single Supply: Yes; DatasheetVersion: Rev.A; PackageVersion: Nov-2002; PackageReference: RU-16; PackageDescription: 16-Lead Thin Shrink Small Outline Package [TSSOP]; Supplier 1: Digi-Key; Supplier Part Number 1: AD5542AARUZ-ND; Supplier 2: Newark; Supplier Part Number 2: 18T2123; Supplier 3: Mouser; Supplier Part Number 3: 584-AD5542AARUZ; Packing: Tube; RoHS: Y; Mounting Technology: Surface Mount; Code_JEDEC: MO-153-AB; ComponentLink1Description: Manufacturer URL; ComponentLink1URL: http://www.analog.com/en/index.html; ComponentLink2Description: Datasheet; ComponentLink2URL: http://www.analog.com/static/imported-files/data_sheets/AD5512A_5542A.pdf; ComponentLink3Description: Package Specification; ComponentLink3URL: http://www.analog.com/static/imported-files/packages/36244347913743854010197452789RU16.pdf; ComponentLink4Description: Product URL; ComponentLink4URL: http://www.analog.com/en/digital-to-analog-converters/da-converters/ad5542a/products/product.html
footprint RU-16_N (TSOP, 16-Leads, Body 5x4.4mm, Pitch 0.65mm, IPC Medium Density)
footprint RU-16_L (TSOP, 16-Leads, Body 5x4.4mm, Pitch 0.65mm, IPC High Density)
footprint RU-16_M (TSOP, 16-Leads, Body 5x4.4mm, Pitch 0.65mm, IPC Low Density)
pins: 1 RFB (in) "Feedback Resistor Pin. In bipolar mode, connect this pin to the external op amp output.", 2 VOUT (out) "Analog Output Voltage from the DAC.", 3 AGNDF (power) "Ground Reference Point for Analog Circuitry (Force).", 4 AGNDS (power) "Ground Reference Point for Analog Circuitry (Sense).", 5 REFS (in) "Voltage Reference Input (Sense) for the DAC. Connect to an external 2.5 V reference. Reference can range from 2 V to VDD.", 6 REFF (in) "Voltage Reference Input (Force) for the DAC. Connect to an external 2.5 V reference. Reference can range from 2 V to VDD.", 7 NC "No Connect.", 8 ~{CS} (in) "Logic Input Signal. The chip select signal is used to frame the serial data input.", 9 SCLK (in) "Clock Input. Data is clocked into the input register on the rising edge of SCLK. Duty cycle must be between 40% and 60%.", 10 DIN (in) "Serial Data Input. This device accepts 16-bit words. Data is clocked into the input register on the rising edge of SCLK.", 11 ~{CLR} (in) "Asynchronous Clear Input. The C\L\R\ input is falling edge sensitive. When C\L\R\ is low, all L\D\A\C\ pulses are ignored. When C\L\R\ is activated, the DAC register is cleared to the model selectable midscale.", 12 ~{LDAC} (in) "L\D\A\C\ Input. When this input is taken low, the DAC register is simultaneously updated with the contents of the input register.", 13 DGND (power) "Digital Ground. Ground reference for digital circuitry.", 14 INV "Connection to the Internal Scaling Resistors of the DAC. Connect the INV pin to the external op amps inverting input in bipolar mode.", 15 VLOGIC (power) "Logic Power Supply.", 16 VDD (power) "Analog Supply Voltage, 5 V +/- 10%."

## AD5542AARUZ-REEL7
designator U?
Single 16-Bit Digital-to-Analog Converter with Serial Interface, 2.7 to 5.5 V, -40 to +85 degC, RU-16, Pb-Free, Reel; Generic Part Number: AD5542A; Manufacturer: Analog Devices; PartNumber: AD5542AARUZ-REEL7; # DAC Outputs: 1; Max V+: 5.5V; Op Pwr Diss: 1.5mW; Resolution (Bits): 16; Settling Time: 1µs; Single Supply: Yes; DatasheetVersion: Rev.A; PackageVersion: Nov-2002; PackageReference: RU-16; PackageDescription: 16-Lead Thin Shrink Small Outline Package [TSSOP]; Supplier 1: Digi-Key; Supplier Part Number 1: AD5542AARUZ-REEL7TR-ND; Supplier 2: Digi-Key; Supplier Part Number 2: AD5542AARUZ-REEL7CT-ND; Supplier 3: Digi-Key; Supplier Part Number 3: AD5542AARUZ-REEL7DKR-ND; Supplier 4: Mouser; Supplier Part Number 4: 584-AD5542AARUZ-R7; Packing: Reel; RoHS: Y; Mounting Technology: Surface Mount; Code_JEDEC: MO-153-AB; ComponentLink1Description: Manufacturer URL; ComponentLink1URL: http://www.analog.com/en/index.html; ComponentLink2Description: Datasheet; ComponentLink2URL: http://www.analog.com/static/imported-files/data_sheets/AD5512A_5542A.pdf; ComponentLink3Description: Package Specification; ComponentLink3URL: http://www.analog.com/static/imported-files/packages/36244347913743854010197452789RU16.pdf; ComponentLink4Description: Product URL; ComponentLink4URL: http://www.analog.com/en/digital-to-analog-converters/da-converters/ad5542a/products/product.html
footprint RU-16_N (TSOP, 16-Leads, Body 5x4.4mm, Pitch 0.65mm, IPC Medium Density)
footprint RU-16_L (TSOP, 16-Leads, Body 5x4.4mm, Pitch 0.65mm, IPC High Density)
footprint RU-16_M (TSOP, 16-Leads, Body 5x4.4mm, Pitch 0.65mm, IPC Low Density)
pins: 1 RFB (in) "Feedback Resistor Pin. In bipolar mode, connect this pin to the external op amp output.", 2 VOUT (out) "Analog Output Voltage from the DAC.", 3 AGNDF (power) "Ground Reference Point for Analog Circuitry (Force).", 4 AGNDS (power) "Ground Reference Point for Analog Circuitry (Sense).", 5 REFS (in) "Voltage Reference Input (Sense) for the DAC. Connect to an external 2.5 V reference. Reference can range from 2 V to VDD.", 6 REFF (in) "Voltage Reference Input (Force) for the DAC. Connect to an external 2.5 V reference. Reference can range from 2 V to VDD.", 7 NC "No Connect.", 8 ~{CS} (in) "Logic Input Signal. The chip select signal is used to frame the serial data input.", 9 SCLK (in) "Clock Input. Data is clocked into the input register on the rising edge of SCLK. Duty cycle must be between 40% and 60%.", 10 DIN (in) "Serial Data Input. This device accepts 16-bit words. Data is clocked into the input register on the rising edge of SCLK.", 11 ~{CLR} (in) "Asynchronous Clear Input. The C\L\R\ input is falling edge sensitive. When C\L\R\ is low, all L\D\A\C\ pulses are ignored. When C\L\R\ is activated, the DAC register is cleared to the model selectable midscale.", 12 ~{LDAC} (in) "L\D\A\C\ Input. When this input is taken low, the DAC register is simultaneously updated with the contents of the input register.", 13 DGND (power) "Digital Ground. Ground reference for digital circuitry.", 14 INV "Connection to the Internal Scaling Resistors of the DAC. Connect the INV pin to the external op amps inverting input in bipolar mode.", 15 VLOGIC (power) "Logic Power Supply.", 16 VDD (power) "Analog Supply Voltage, 5 V +/- 10%."

## AD5542ABCPZ-500RL7
designator U?
Single 16-Bit Digital-to-Analog Converter with Serial Interface, 2.7 to 5.5 V, -40 to +85 degC, CP-16-22, Pb-Free, Reel; Generic Part Number: AD5542A; Manufacturer: Analog Devices; PartNumber: AD5542ABCPZ-500RL7; # DAC Outputs: 1; Max V+: 5.5V; Op Pwr Diss: 1.5mW; Resolution (Bits): 16; Settling Time: 1µs; Single Supply: Yes; DatasheetVersion: Rev.A; PackageVersion: 111808-A; PackageReference: CP-16-22; PackageDescription: 16-Lead Lead Frame Chip Scale Package [LFCSP_WQ] 3 x 3 mm Body, Very Very Thin Quad; Supplier 1: Mouser; Supplier Part Number 1: N/A; Packing: Reel; RoHS: Y; Mounting Technology: Surface Mount; Code_JEDEC: MO-220-WEED; ComponentLink1Description: Manufacturer URL; ComponentLink1URL: http://www.analog.com/en/index.html; ComponentLink2Description: Datasheet; ComponentLink2URL: http://www.analog.com/static/imported-files/data_sheets/AD5512A_5542A.pdf; ComponentLink3Description: Package Specification; ComponentLink3URL: http://www.analog.com/static/imported-files/packages/PKG_PDF/LFCSP(CP)/CP-16/CP_16_22.pdf; ComponentLink4Description: Product URL; ComponentLink4URL: http://www.analog.com/en/digital-to-analog-converters/da-converters/ad5542a/products/product.html
footprint CP-16-22_N (QFN, 16-Leads, Body 3x3mm, Pitch 0.5mm, Thermal Pad 1.75x1.75mm, IPC Medium Density)
footprint CP-16-22_L (QFN, 16-Leads, Body 3x3mm, Pitch 0.5mm, Thermal Pad 1.75x1.75mm, IPC High Density)
footprint CP-16-22_M (QFN, 16-Leads, Body 3x3mm, Pitch 0.5mm, Thermal Pad 1.75x1.75mm, IPC Low Density)
pins: 1 VOUT (out) "Analog Output Voltage from the DAC.", 2 AGNDF (power) "Ground Reference Point for Analog Circuitry (Force).", 3 AGNDS (power) "Ground Reference Point for Analog Circuitry (Sense).", 4 REFS (in) "Voltage Reference Input (Sense) for the DAC. Connect to an external 2.5 V reference. Reference can range from 2 V to VDD.", 5 REFF (in) "Voltage Reference Input (Force) for the DAC. Connect to an external 2.5 V reference. Reference can range from 2 V to VDD.", 6 ~{CS} (in) "Logic Input Signal. The chip select signal is used to frame the serial data input.", 7 NC "No Connect.", 8 SCLK (in) "Clock Input. Data is clocked into the input register on the rising edge of SCLK. Duty cycle must be between 40% and 60%.", 9 DIN (in) "Serial Data Input. This device accepts 16-bit words. Data is clocked into the input register on the rising edge of SCLK.", 10 ~{CLR} (in) "Asynchronous Clear Input. The C\L\R\ input is falling edge sensitive. When C\L\R\ is low, all L\D\A\C\ pulses are ignored. When C\L\R\ is activated, the DAC register is cleared to the model selectable midscale.", 11 ~{LDAC} (in) "L\D\A\C\ Input. When this input is taken low, the DAC register is simultaneously updated with the contents of the input register.", 12 DGND (power) "Digital Ground. Ground reference for digital circuitry.", 13 INV "Connection to the Internal Scaling Resistors of the DAC. Connect the INV pin to the external op amps inverting input in bipolar mode.", 14 VLOGIC (power) "Logic Power Supply.", 15 VDD (power) "Analog Supply Voltage, 5 V +/- 10%.", 16 RFB (in) "Feedback Resistor Pin. In bipolar mode, connect this pin to the external op amp output.", 17 EP (power) "The exposed pad should be tied to the point of lowest potential, in this case, GND."

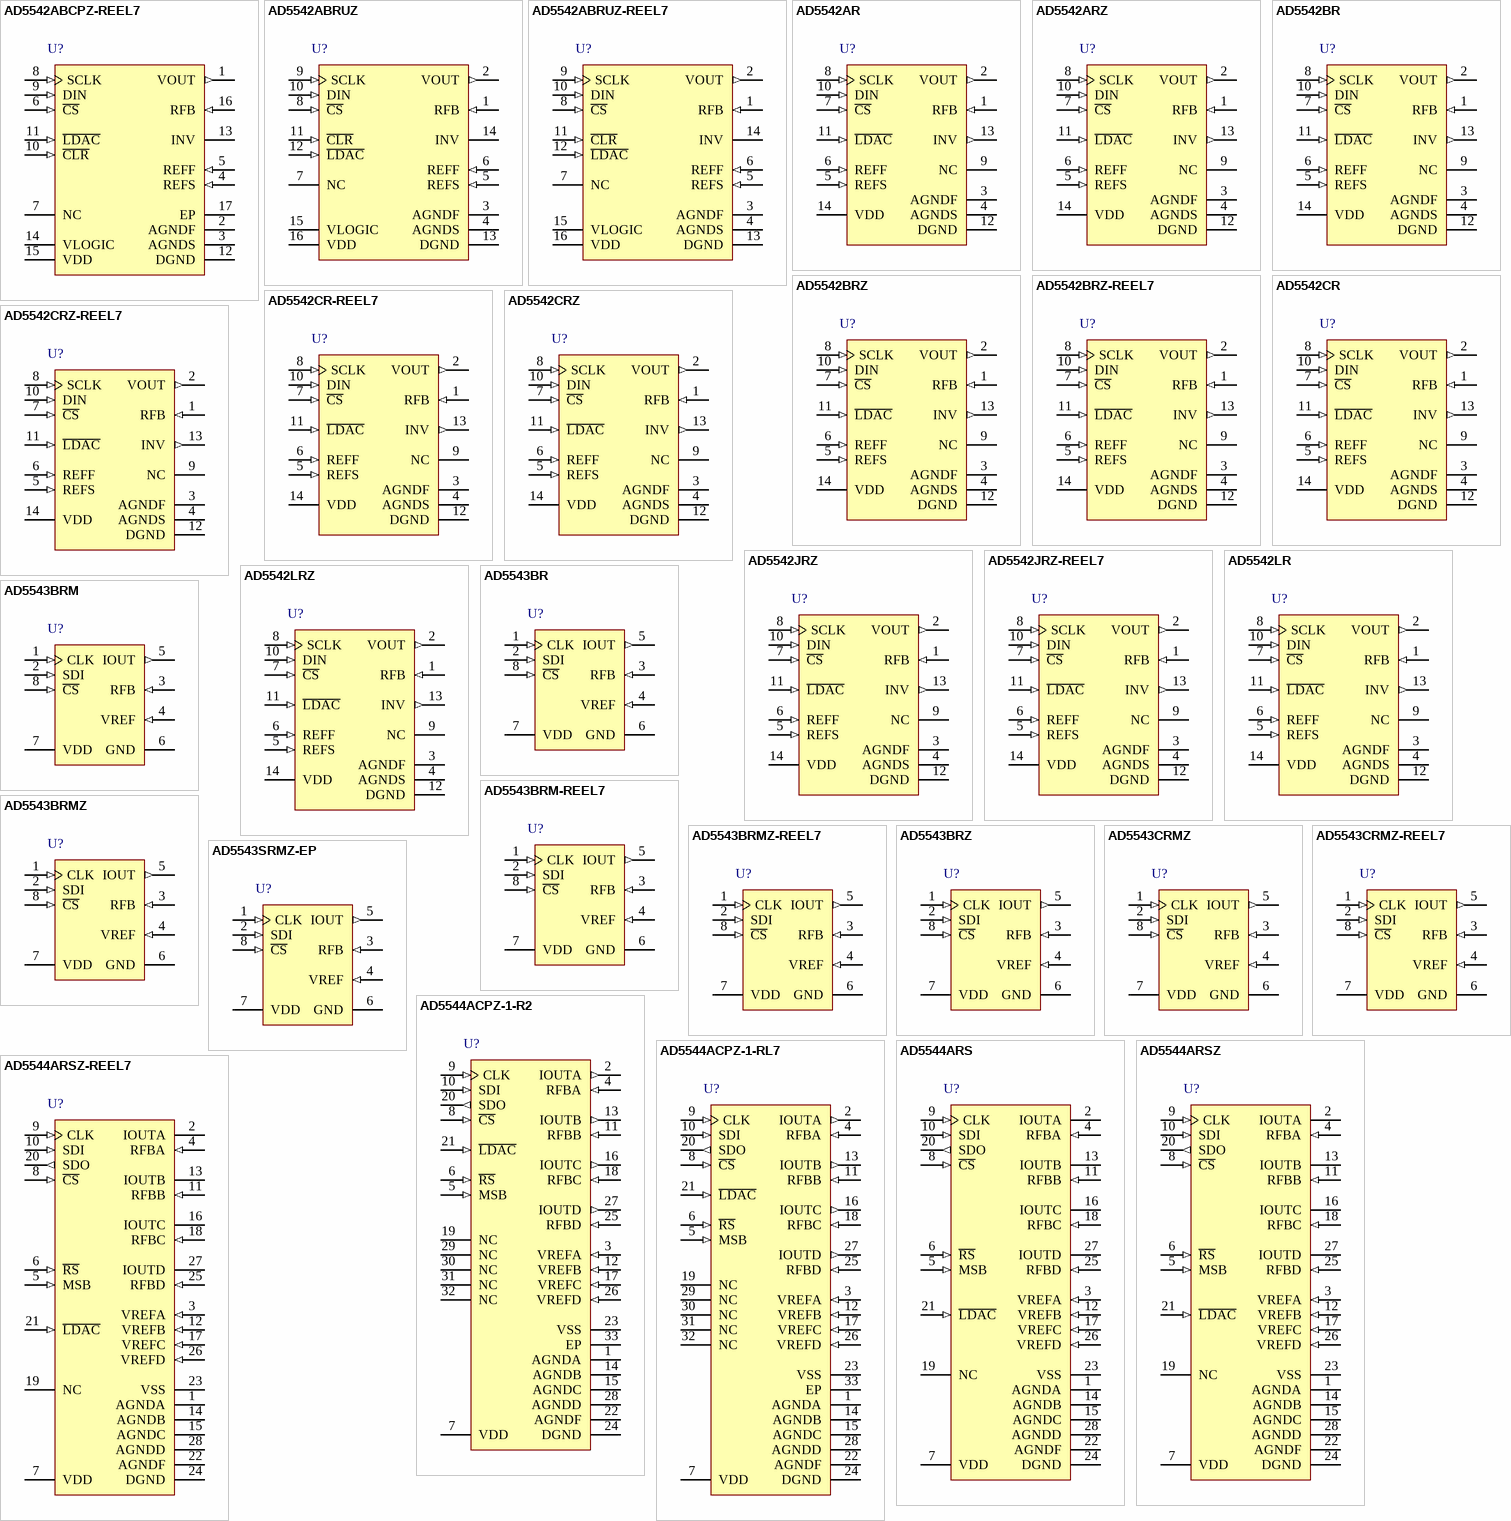
[diagram p39: symbols AD5542ABCPZ-REEL7 to AD5544ARSZ-REEL7]

## AD5542ABCPZ-REEL7
designator U?
Single 16-Bit Digital-to-Analog Converter with Serial Interface, 2.7 to 5.5 V, -40 to +85 degC, CP-16-22, Pb-Free, Reel; Generic Part Number: AD5542A; Manufacturer: Analog Devices; PartNumber: AD5542ABCPZ-REEL7; # DAC Outputs: 1; Max V+: 5.5V; Op Pwr Diss: 1.5mW; Resolution (Bits): 16; Settling Time: 1µs; Single Supply: Yes; DatasheetVersion: Rev.A; PackageVersion: 111808-A; PackageReference: CP-16-22; PackageDescription: 16-Lead Lead Frame Chip Scale Package [LFCSP_WQ] 3 x 3 mm Body, Very Very Thin Quad; Supplier 1: Digi-Key; Supplier Part Number 1: AD5542ABCPZ-REEL7TR-ND; Supplier 2: Digi-Key; Supplier Part Number 2: AD5542ABCPZ-REEL7CT-ND; Supplier 3: Digi-Key; Supplier Part Number 3: AD5542ABCPZ-REEL7DKR-ND; Supplier 4: Mouser; Supplier Part Number 4: 584-AD5542ABCPZ-R7; Packing: Reel; RoHS: Y; Mounting Technology: Surface Mount; Code_JEDEC: MO-220-WEED; ComponentLink1Description: Manufacturer URL; ComponentLink1URL: http://www.analog.com/en/index.html; ComponentLink2Description: Datasheet; ComponentLink2URL: http://www.analog.com/static/imported-files/data_sheets/AD5512A_5542A.pdf; ComponentLink3Description: Package Specification; ComponentLink3URL: http://www.analog.com/static/imported-files/packages/PKG_PDF/LFCSP(CP)/CP-16/CP_16_22.pdf; ComponentLink4Description: Product URL; ComponentLink4URL: http://www.analog.com/en/digital-to-analog-converters/da-converters/ad5542a/products/product.html
footprint CP-16-22_N (QFN, 16-Leads, Body 3x3mm, Pitch 0.5mm, Thermal Pad 1.75x1.75mm, IPC Medium Density)
footprint CP-16-22_L (QFN, 16-Leads, Body 3x3mm, Pitch 0.5mm, Thermal Pad 1.75x1.75mm, IPC High Density)
footprint CP-16-22_M (QFN, 16-Leads, Body 3x3mm, Pitch 0.5mm, Thermal Pad 1.75x1.75mm, IPC Low Density)
pins: 1 VOUT (out) "Analog Output Voltage from the DAC.", 2 AGNDF (power) "Ground Reference Point for Analog Circuitry (Force).", 3 AGNDS (power) "Ground Reference Point for Analog Circuitry (Sense).", 4 REFS (in) "Voltage Reference Input (Sense) for the DAC. Connect to an external 2.5 V reference. Reference can range from 2 V to VDD.", 5 REFF (in) "Voltage Reference Input (Force) for the DAC. Connect to an external 2.5 V reference. Reference can range from 2 V to VDD.", 6 ~{CS} (in) "Logic Input Signal. The chip select signal is used to frame the serial data input.", 7 NC "No Connect.", 8 SCLK (in) "Clock Input. Data is clocked into the input register on the rising edge of SCLK. Duty cycle must be between 40% and 60%.", 9 DIN (in) "Serial Data Input. This device accepts 16-bit words. Data is clocked into the input register on the rising edge of SCLK.", 10 ~{CLR} (in) "Asynchronous Clear Input. The C\L\R\ input is falling edge sensitive. When C\L\R\ is low, all L\D\A\C\ pulses are ignored. When C\L\R\ is activated, the DAC register is cleared to the model selectable midscale.", 11 ~{LDAC} (in) "L\D\A\C\ Input. When this input is taken low, the DAC register is simultaneously updated with the contents of the input register.", 12 DGND (power) "Digital Ground. Ground reference for digital circuitry.", 13 INV "Connection to the Internal Scaling Resistors of the DAC. Connect the INV pin to the external op amps inverting input in bipolar mode.", 14 VLOGIC (power) "Logic Power Supply.", 15 VDD (power) "Analog Supply Voltage, 5 V +/- 10%.", 16 RFB (in) "Feedback Resistor Pin. In bipolar mode, connect this pin to the external op amp output.", 17 EP (power) "The exposed pad should be tied to the point of lowest potential, in this case, GND."